# Altium footprint library TO254_450P1040X460X2000-3.PcbLib: 1 footprints
Each footprint in its own frame and in the unit in brackets; x right, y up, seen from the top. Pads: shape width x height; smd on the part's side, far side on the other; paste and mask are expansions set on the pad; w line width, h text height; cw(c..) or ccw(c..) is an arc to the next point about the centre after c.
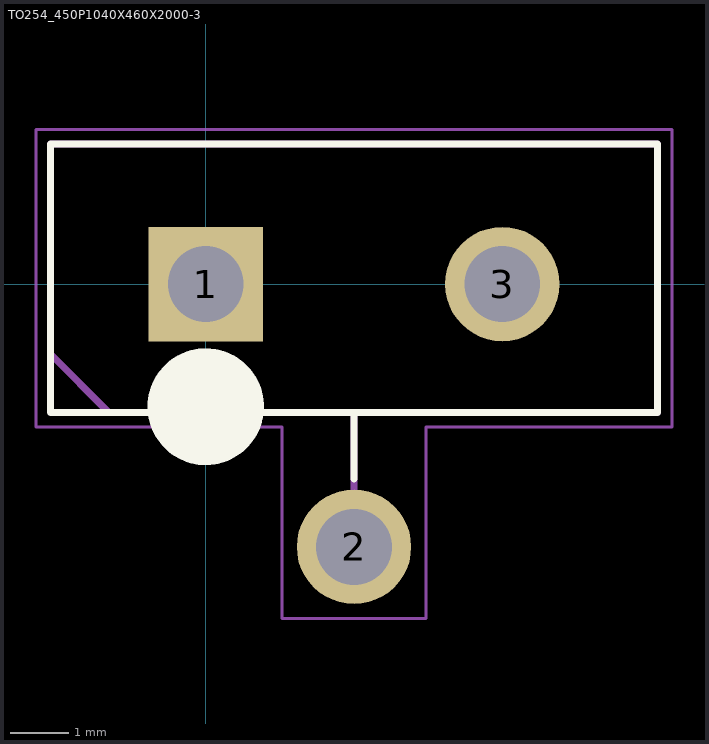
[diagram p0: the footprint, top view; thin cyan lines are the x and y axes]

## TO254_450P1040X460X2000-3 [mm] "Flange Mount (TO) Vertical, 2.54 mm pitch; 3 pin, 10.40 mm W X 4.60 mm H X 20.00 mm mounted height"
height 20
pads (3):
  rect 1.96x1.96 / inner round 1.96 / far side rect 1.96x1.96 hole 1.3 paste-2539.97: 1(0,0)
  round 1.96 hole 1.3 paste-2539.97: 2(2.54,-4.5) 3(5.08,0)
Top Overlay:
  circle w1: c0,-2.1 r0.5
  lines w0.12: 2.54,-3.34 2.54,-2.2 ; -2.66,-2.2 -2.66,2.4 7.74,2.4 7.74,-2.2 -2.66,-2.2
Mechanical 11:
  lines w0.12: 2.54,-3.52 2.54,-2.2 ; -2.66,-1.2 -1.66,-2.2 7.74,-2.2 7.74,2.4 -2.66,2.4 -2.66,-1.2
Mechanical 12:
  lines w0.025: -2.66,-2.2 -2.66,2.4 7.74,2.4 7.74,-2.2 -2.66,-2.2 ; -0.45,-0.35 0.45,-0.35 0.45,0.35 -0.45,0.35 -0.45,-0.35 ; 2.09,-4.85 2.99,-4.85 2.99,-4.15 2.09,-4.15 2.09,-4.85 ; 4.63,-0.35 5.53,-0.35 5.53,0.35 4.63,0.35 4.63,-0.35
Mechanical 15:
  circle w0.05: c0,0 r0.25
  lines w0.05: -0.35,0 0.35,0 ; 0,-0.35 0,0.35 ; -2.91,-2.45 -2.91,2.65 7.99,2.65 7.99,-2.45 3.77,-2.45 3.77,-5.73 1.31,-5.73 1.31,-2.45 -2.91,-2.45
Mechanical 16:
  text ".Designator" at 0,0 h1.2
3D body "TO254_450P1040X460X2000-3.STEP": height 20, standoff -2, extent -2.66,-4.875 7.74,2.4